# EAGLE library part TA20-11 (library led-seg)
5*7 LED Indicator.
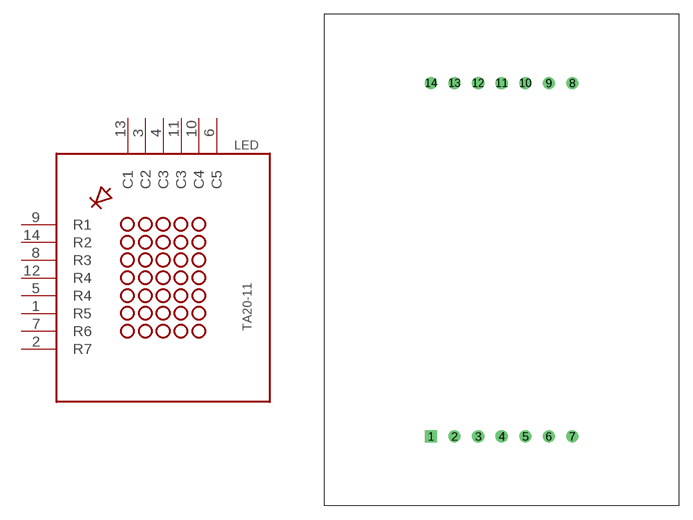
[diagram p13: symbol with the pads of TA20-11; footprint TA20-11]

Designator prefix LED

## TA20-11SRWA  [TA20-11]
1  R5  in
2  R7  in
3  C2  in
4  C3  in
5  R4  in
6  C5  in
7  R6  in
8  R3  in
9  R1  in
10  C4  in
11  C3  in
12  R4  in
13  C1  in
14  R2  in

## Footprint TA20-11 (pad centres in mm)
drill 0.8 square: 1 -7.62,-19.05
drill 0.8: 2 -5.08,-19.05; 3 -2.54,-19.05; 4 0,-19.05; 5 2.54,-19.05; 6 5.08,-19.05; 7 7.62,-19.05; 8 7.62,19.05; 9 5.08,19.05; 10 2.54,19.05; 11 0,19.05; 12 -2.54,19.05; 13 -5.08,19.05; 14 -7.62,19.05